# Altium footprint library Monolithic_Power_Systems.PcbLib: 17 footprints (part 2 of 2)
Each footprint in its own frame and in the unit in brackets; x right, y up, seen from the top. Pads: shape width x height; smd on the part's side, far side on the other; paste and mask are expansions set on the pad; w line width, h text height; cw(c..) or ccw(c..) is an arc to the next point about the centre after c.
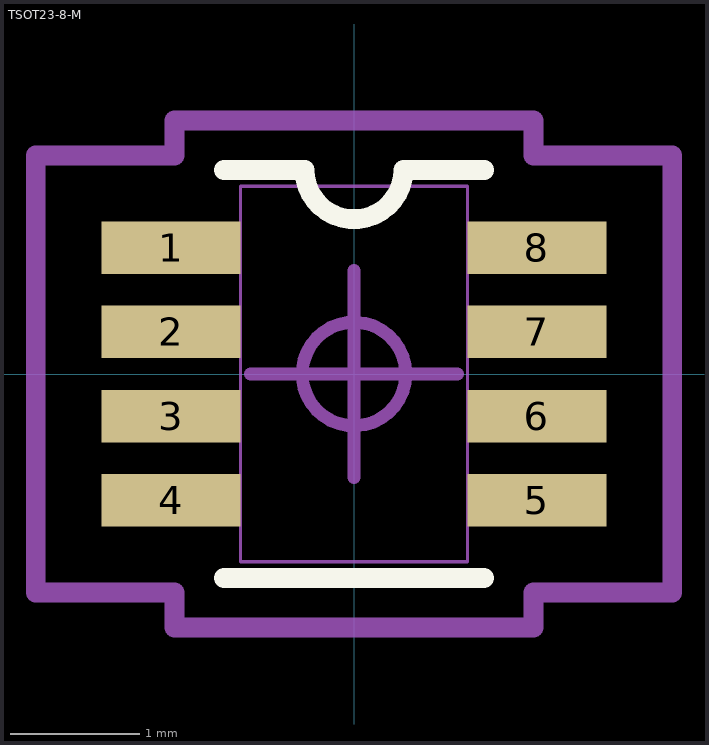
[diagram p1: the footprint, top view; thin cyan lines are the x and y axes]

## TSOT23-8-M [mm]
pads (8):
  rect 1.071x0.406 smd: 1(-1.412,0.975) 2(-1.412,0.325) 3(-1.412,-0.325) 4(-1.412,-0.975) 5(1.412,-0.975) 6(1.412,-0.325) 7(1.412,0.325) 8(1.412,0.975)
Top Overlay:
  lines w0.152: -1.003,-1.575 1.003,-1.575 ; -1.003,1.575 -0.38,1.575 ; -0.381,1.575 ccw(c0,1.575) 0.381,1.575 1.004,1.575
Mechanical 13:
  lines w0: -0.305,1.448 ccw(c0,1.448) 0.305,1.448
  lines w0.025: -1.397,-1.153 -0.876,-1.153 -0.876,-0.797 -1.397,-0.797 -1.397,-1.153 ; -1.397,-0.503 -0.876,-0.503 -0.876,-0.147 -1.397,-0.147 -1.397,-0.503 ; -1.397,0.147 -0.876,0.147 -0.876,0.503 -1.397,0.503 -1.397,0.147 ; -1.397,0.797 -0.876,0.797 -0.876,1.153 -1.397,1.153 -1.397,0.797 ; -0.876,-1.448 -0.876,1.448 0.876,1.448 0.876,-1.448 -0.876,-1.448 ; 0.876,-1.153 1.397,-1.153 1.397,-0.797 0.876,-0.797 0.876,-1.153 ; 0.876,-0.503 1.397,-0.503 1.397,-0.147 0.876,-0.147 0.876,-0.503 ; 0.876,0.147 1.397,0.147 1.397,0.503 0.876,0.503 0.876,0.147 ; 0.876,0.797 1.397,0.797 1.397,1.153 0.876,1.153 0.876,0.797
Mechanical 15:
  circle w0.1: c0,0 r0.4
  lines w0.1: -0.8,0 -0.4,0 0,0 ; 0,-0.8 0,-0.4 0,0 ; 0,0.8 0,0.4 0,0 ; 0.8,0 0.4,0 0,0
  lines w0.152: -2.455,-1.686 -1.384,-1.686 -1.384,-1.956 1.384,-1.956 1.384,-1.686 2.455,-1.686 2.455,1.686 1.384,1.686 1.384,1.956 -1.384,1.956 -1.384,1.686 -2.455,1.686 -2.455,-1.686
3D body "TSOT-23_TS8_LIT.step": height 0.99, standoff 0, extent -1.397,-1.448 1.397,1.448